# Altium schematic symbol library AP64060QWU-7.SchLib: 1 symbol
Pins are listed as number, name and electrical type; pins without a type are passive.

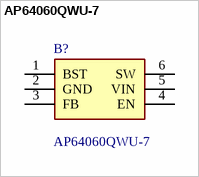
[diagram p0: symbol AP64060QWU-7]

## AP64060QWU-7
designator B?
Switching Voltage Regulators DCDC Conv HV Buck TSOT26(STD) T&R 3K; Manufacturer_Name: Diodes Incorporated; Geometry.Height: 1mm; Mouser Part Number: 621-AP64060QWU-7; Mouser Price/Stock: https://www.mouser.co.uk/ProductDetail/Diodes-Incorporated/AP64060QWU-7?qs=Li%252BoUPsLEnvtPycFvZmEcQ%3D%3D; Manufacturer_Part_Number: AP64060QWU-7; Datasheet Link: https://www.diodes.com//assets/Datasheets/AP64060.pdf
footprint SOT95P280X100-6N
pins: 1 BST, 2 GND, 3 FB, 4 EN, 5 VIN, 6 SW